# Altium footprint library Discrete Semiconductors Pad Lib.PcbLib: 56 footprints (part 3 of 4)
Each footprint in its own frame and in the unit in brackets; x right, y up, seen from the top. Pads: shape width x height; smd on the part's side, far side on the other; paste and mask are expansions set on the pad; w line width, h text height; cw(c..) or ccw(c..) is an arc to the next point about the centre after c.
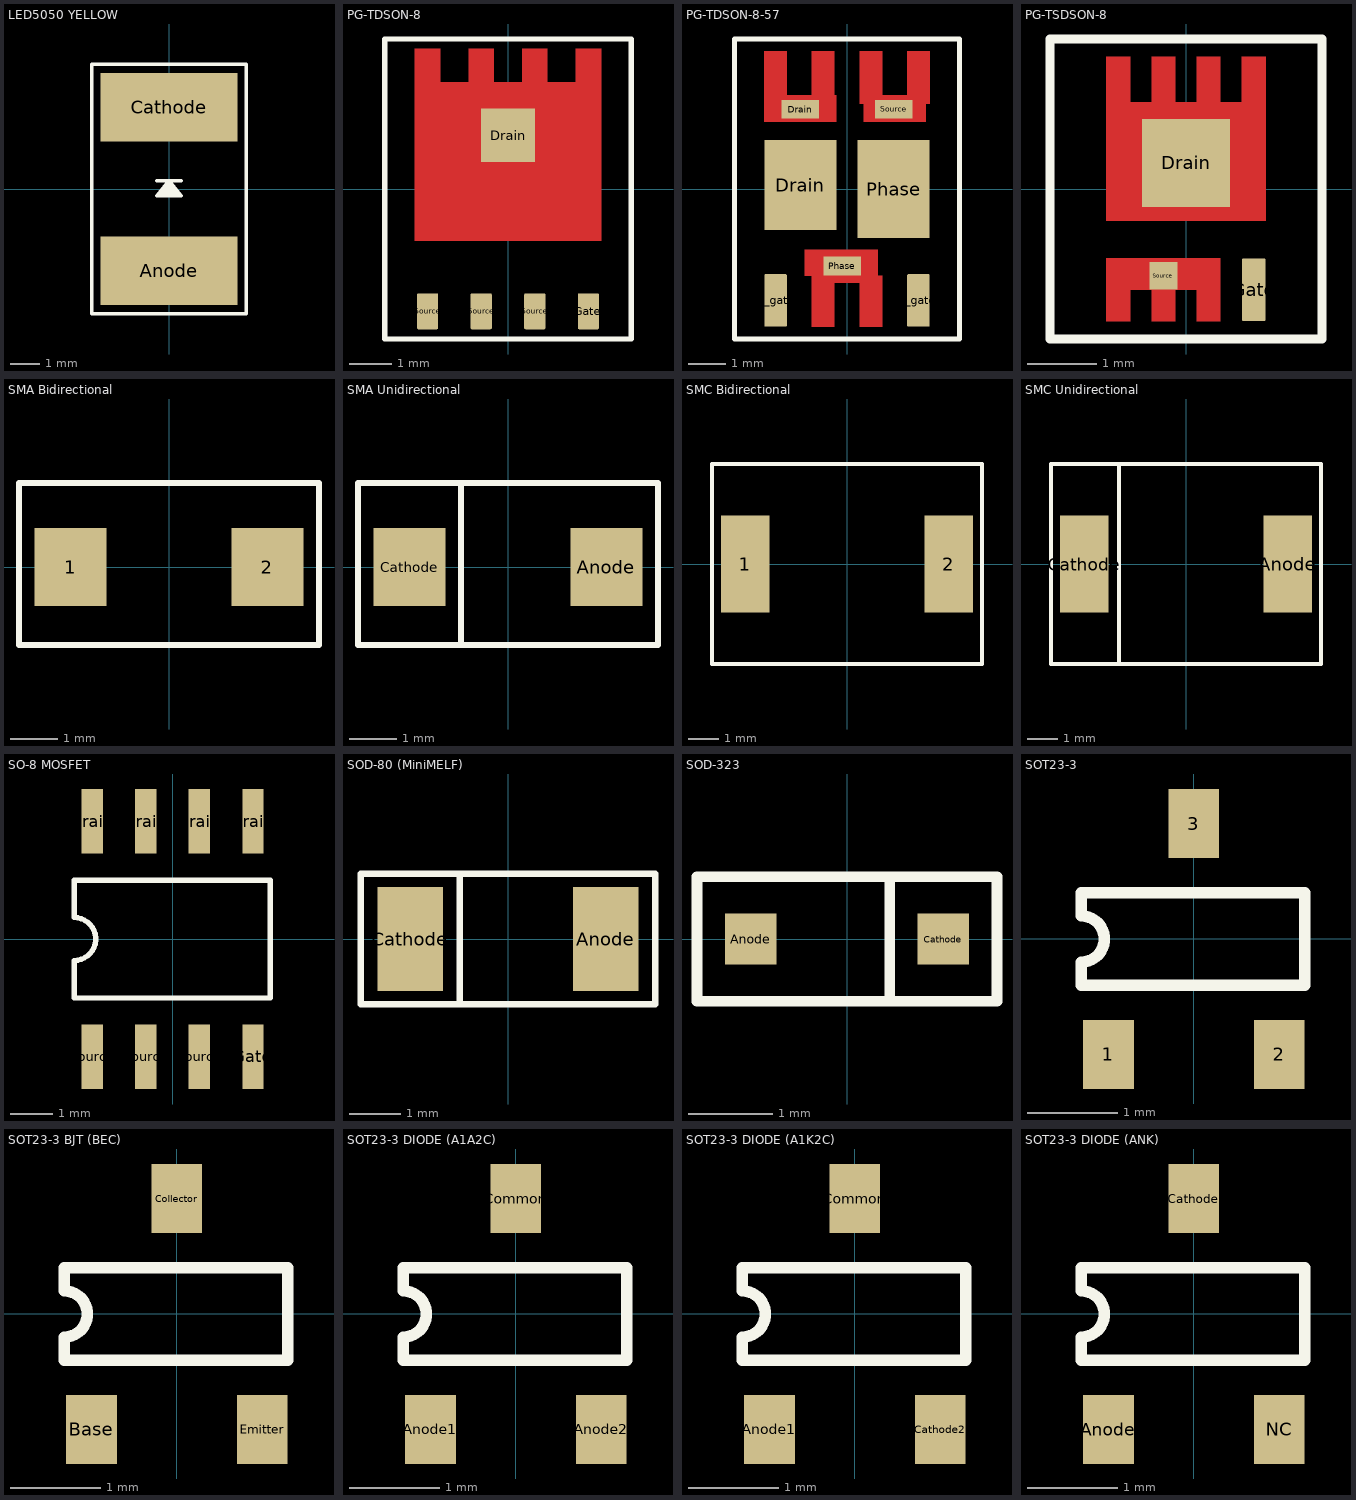
[diagram p2: the footprints below, top view; thin cyan lines are the x and y axes]

## LED5050 YELLOW [mm] "5050 LED Yellow Color"
pads (2):
  rect 4.6x2.3 smd: Anode(0,-2.75) Cathode(0,2.75)
Top Overlay:
  region: -0.4,-0.229 0.4,-0.229 0,0.271
  lines w0.127: -0.4,0.279 0.4,0.279 ; -2.6,-4.2 -2.6,4.2 2.6,4.2 2.6,-4.2 -2.6,-4.2 ; -0.4,-0.229 0.4,-0.229 0,0.271 -0.4,-0.229
3D body "LED SMD 5050 yellow.STEP": height 1.61, standoff 0.01, extent -2.5,-2.67 2.5,2.63

## PG-TDSON-8 [mm] "PG-TDSON-8 Mosfet"
pads (5):
  rect 1.27x1.27 smd: Drain(0,1.27)
  rrect10% 0.5x0.85 smd: Gate(1.905,-2.9) Source(-1.905,-2.9) Source(-0.635,-2.9) Source(0.635,-2.9)
Top Layer:
  region: -1.605,2.525 -1.605,3.325 -2.205,3.325 -2.205,-1.225 2.205,-1.225 2.205,3.325 1.605,3.325 1.605,2.525 0.935,2.525 0.935,3.325 0.335,3.325 0.335,2.525 -0.335,2.525 -0.335,3.325 -0.935,3.325 -0.935,2.525
Top Overlay:
  lines w0.127: -2.921,-3.556 -2.921,3.556 2.921,3.556 2.921,-3.556 -2.921,-3.556
3D body "PG-TDSON-8.STEP": height 1, standoff 0, extent -2.695,-3.075 2.695,3.075

## PG-TDSON-8-57 [mm] "PG-TDSON-8-57 Mosfet"
height 1
pads (7):
  rect 1x0.5 smd: Drain(-1.25,2.125) Phase(-0.125,-2.05) Source(1.25,2.125)
  rect 1.92x2.39 smd: Drain(-1.245,0.105)
  rrect10% 0.6x1.4 smd: H_gate(-1.905,-2.97) L_gate(1.905,-2.97)
  rect 1.92x2.6 smd: Phase(1.245,0)
Top Layer:
  region: 0.335,3.67 0.335,2.27 0.445,2.27 0.445,1.8 2.095,1.8 2.095,2.27 2.205,2.27 2.205,3.67 1.605,3.67 1.605,2.5 0.935,2.5 0.935,3.67
  region: -2.205,3.67 -2.205,1.8 -0.285,1.8 -0.285,2.5 -0.335,2.5 -0.335,3.67 -0.935,3.67 -0.935,2.5 -1.605,2.5 -1.605,3.67
  region: 0.335,-2.505 0.335,-3.675 0.935,-3.675 0.935,-2.315 0.824,-2.315 0.824,-1.615 -1.125,-1.615 -1.125,-2.315 -0.935,-2.315 -0.935,-3.675 -0.335,-3.675 -0.335,-2.505
Top Overlay:
  lines w0.127: -3,-4 3,-4 3,4 -3,4 -3,-4
3D body "PG-TDSON-8-57_Z8B00191012_V02_3D.stp": height 1.01, standoff 0, extent -2.705,-3.22 2.705,3.22

## PG-TSDSON-8 [mm] "PG-TSDSON-8 Mosfet"
pads (3):
  rect 1.27x1.27 smd paste-5: Drain(0,0.375)
  rrect10% 0.34x0.9 smd paste-0.5: Gate(0.975,-1.45)
  rect 0.4x0.4 smd paste-0.2: Source(-0.325,-1.25)
Top Layer:
  region: -0.805,1.25 -0.805,1.9 -1.145,1.9 -1.145,-0.46 1.145,-0.46 1.145,1.9 0.805,1.9 0.805,1.25 0.495,1.25 0.495,1.9 0.155,1.9 0.155,1.25 -0.155,1.25 -0.155,1.9 -0.495,1.9 -0.495,1.25
  region: 0.155,-1.45 0.155,-1.9 0.495,-1.9 0.495,-1 -1.145,-1 -1.145,-1.9 -0.805,-1.9 -0.805,-1.45 -0.495,-1.45 -0.495,-1.9 -0.155,-1.9 -0.155,-1.45
Top Overlay:
  lines w0.127: -1.956,-2.159 -1.956,2.159 1.956,2.159 1.956,-2.159 -1.956,-2.159
Top Paste:
  rectangle: -1.145,-1.9 -0.805,-1.1
  rectangle: -0.495,-1.9 -0.155,-1.1
  rectangle: 0.155,-1.9 0.495,-1.1
  rectangle: 0.805,-1.9 1.145,-1.1
  region: 1.145,0.39 0.155,0.39 0.155,-0.46 1.145,-0.46
  region: -1.145,0.39 -0.155,0.39 -0.155,-0.46 -1.145,-0.46
  region: 1.145,1.9 1.145,0.7 0.155,0.7 0.155,1.9 0.495,1.9 0.495,1.25 0.805,1.25 0.805,1.9
  region: -1.145,1.9 -1.145,0.7 -0.155,0.7 -0.155,1.9 -0.495,1.9 -0.495,1.25 -0.805,1.25 -0.805,1.9
3D body "PG-TSDSON-8.STEP": height 1, standoff 0, extent -1.65,-1.65 1.65,1.65

## SMA Bidirectional [mil] "SMA Bidirectional TVS Diode"
pads (2):
  rect 60x65 smd: 1(-82,0) 2(82,0)
Top Overlay:
  lines w5: -125,-65 125,-65 125,70 -125,70 -125,-65
3D body: height 171, standoff -22, extent 48,0 48,0
3D body: height 171, standoff -22, extent 48,0 48,0
3D body "SMA (DO-214AC) BiDirection.STEP": height 90.68, standoff 0.13, extent -102.36,-57.08 102.36,57.09

## SMA Unidirectional [mil] "SMA Unidirectional TVS Diode"
pads (2):
  rect 60x65 smd: Anode(82,0) Cathode(-82,0)
Top Overlay:
  lines w5: -39,-65 -39,70 ; -125,-65 125,-65 125,70 -125,70 -125,-65
3D body: height 171, standoff -22, extent 48,0 48,0
3D body: height 171, standoff -22, extent 48,0 48,0
3D body "SMA (DO-214AC) UniDirection.STEP": height 90.68, standoff 0.13, extent -102.36,-57.08 102.36,57.09

## SMC Bidirectional [mil] "SMC Bidirectional TVS Diode"
pads (2):
  rect 62x124 smd: 1(-130,0) 2(130,0)
Top Overlay:
  lines w5: -173,-128 -173,128 173,128 173,-128 -173,-128
3D body: height 171, standoff -22, extent 48,0 48,0
3D body: height 171, standoff -22, extent 48,0 48,0
3D body "SMC (DO-214AB) Bidirectional.STEP": height 94.49, standoff 1.29, extent -160.03,-120.07 160.04,120.09

## SMC Unidirectional [mil] "SMC Unidirectional TVS Diode"
pads (2):
  rect 62x124 smd: Anode(130,0) Cathode(-130,0)
Top Overlay:
  lines w5: -86,-128 -86,128 ; -173,-128 173,-128 173,128 -173,128 -173,-128
3D body: height 171, standoff -22, extent 48,0 48,0
3D body: height 171, standoff -22, extent 48,0 48,0
3D body "SMC (DO-214AB) Unidirectional.STEP": height 94.49, standoff 1.29, extent -160.03,-120.07 160.04,120.09

## SO-8 MOSFET [mil] "SO-8 Narrow"
pads (8):
  rect 20x60 smd: Drain(-75,110) Drain(-25,110) Drain(25,110) Drain(75,110) Gate(75,-110) Source(-75,-110) Source(-25,-110) Source(25,-110)
Top Overlay:
  lines w5: -91.75,-55 91,-55 91,55 -91.75,55 -91.75,20 cw(c-91.75,0) -91.75,-20 -91.75,-55
3D body: height 171, standoff -22, extent 0,0 0,0
3D body: height 171, standoff -22, extent 0,0 0,0
3D body "SO-8 Narrow.step": height 57, standoff 0, extent -96.75,-115 96.25,112.49

## SOD-80 (MiniMELF) [mil] "Diode SOD-80 (MiniMELF)"
pads (2):
  rect 50x80 smd: Anode(75,0) Cathode(-75,0)
Top Overlay:
  lines w5: -37,-50 -37,50 ; -113,-50 113,-50 113,50 -113,50 -113,-50
3D body: height 94.49, standoff 1.29, extent 0,0 0,0
3D body "SOD-80 (MiniMELF).STEP": height 62.99, standoff 0, extent -74.01,-31.49 71.66,31.5

## SOD-323 [mil] "SOD-323 Diode"
pads (2):
  rect 24x24 smd: Anode(-45,0) Cathode(45,0)
Top Overlay:
  lines w5: 20,-29 20,29 ; -70,-29 -70,29 70,29 70,-29 -70,-29
3D body: height 171, standoff -22, extent 48,0 48,0
3D body: height 171, standoff -22, extent 48,0 48,0
3D body "SOD-323.STEP": height 43.31, standoff 0, extent -51.18,-26.58 51.18,26.58

## SOT23-3 [mil] "SOT23-3"
pads (3):
  rect 22x30 smd: 1(-37,-50) 2(37,-50) 3(0,50)
Top Overlay:
  lines w5: -48.75,-20 48,-20 48,20 -48.75,20 -48.75,10 cw(c-48.75,0) -48.75,-10 -48.75,-20
3D body: height 171, standoff -22, extent 48,0 48,0
3D body: height 171, standoff -22, extent 48,0 48,0
3D body "SOT23-3.step": height 51.18, standoff 0, extent -57.08,-55.11 57.09,55.12

## SOT23-3 BJT (BEC) [mil] "SOT23-3 (1 - Base; 2 - Emitter; 3 - Collector)"
pads (3):
  rect 22x30 smd: Base(-37,-50) Collector(0,50) Emitter(37,-50)
Top Overlay:
  lines w5: -48.75,-20 -48.75,-10 ccw(c-48.75,0) -48.75,10 -48.75,20 48,20 48,-20 -48.75,-20
3D body: height 171, standoff -22, extent 48,0 48,0
3D body: height 171, standoff -22, extent 48,0 48,0
3D body "SOT23-3.step": height 51.18, standoff 0, extent -57.08,-55.11 57.09,55.12

## SOT23-3 DIODE (A1A2C) [mil] "SOT23-3 (1-AnodeFirst; 2-AnodeSecond; 3-CommonCathodes)"
pads (3):
  rect 22x30 smd: Anode1(-37,-50) Anode2(37,-50) Common(0,50)
Top Overlay:
  lines w5: -48.75,-20 48,-20 48,20 -48.75,20 -48.75,10 cw(c-48.75,0) -48.75,-10 -48.75,-20
3D body: height 171, standoff -22, extent 48,0 48,0
3D body: height 171, standoff -22, extent 48,0 48,0
3D body "SOT23-3.step": height 51.18, standoff 0, extent -57.08,-55.11 57.09,55.12

## SOT23-3 DIODE (A1K2C) [mil] "SOT23-3 (1-AnodeFirst; 2-CathodeSecond; 3-Common)"
pads (3):
  rect 22x30 smd: Anode1(-37,-50) Cathode2(37,-50) Common(0,50)
Top Overlay:
  lines w5: -48.75,-20 -48.75,-10 ccw(c-48.75,0) -48.75,10 -48.75,20 48,20 48,-20 -48.75,-20
3D body: height 171, standoff -22, extent 48,0 48,0
3D body: height 171, standoff -22, extent 48,0 48,0
3D body "SOT23-3.step": height 51.18, standoff 0, extent -57.08,-55.11 57.09,55.12

## SOT23-3 DIODE (ANK) [mil] "SOT23-3 (1-Anode; 2-NC; 3-Cathode)"
pads (3):
  rect 22x30 smd: Anode(-37,-50) Cathode(0,50) NC(37,-50)
Top Overlay:
  lines w5: -48.75,-20 48,-20 48,20 -48.75,20 -48.75,10 cw(c-48.75,0) -48.75,-10 -48.75,-20
3D body: height 171, standoff -22, extent 48,0 48,0
3D body: height 171, standoff -22, extent 48,0 48,0
3D body "SOT23-3.step": height 51.18, standoff 0, extent -57.08,-55.11 57.09,55.12